# Altium footprint library dv_power.PcbLib: 8 footprints
Each footprint in its own frame and in the unit in brackets; x right, y up, seen from the top. Pads: shape width x height; smd on the part's side, far side on the other; paste and mask are expansions set on the pad; w line width, h text height; cw(c..) or ccw(c..) is an arc to the next point about the centre after c.
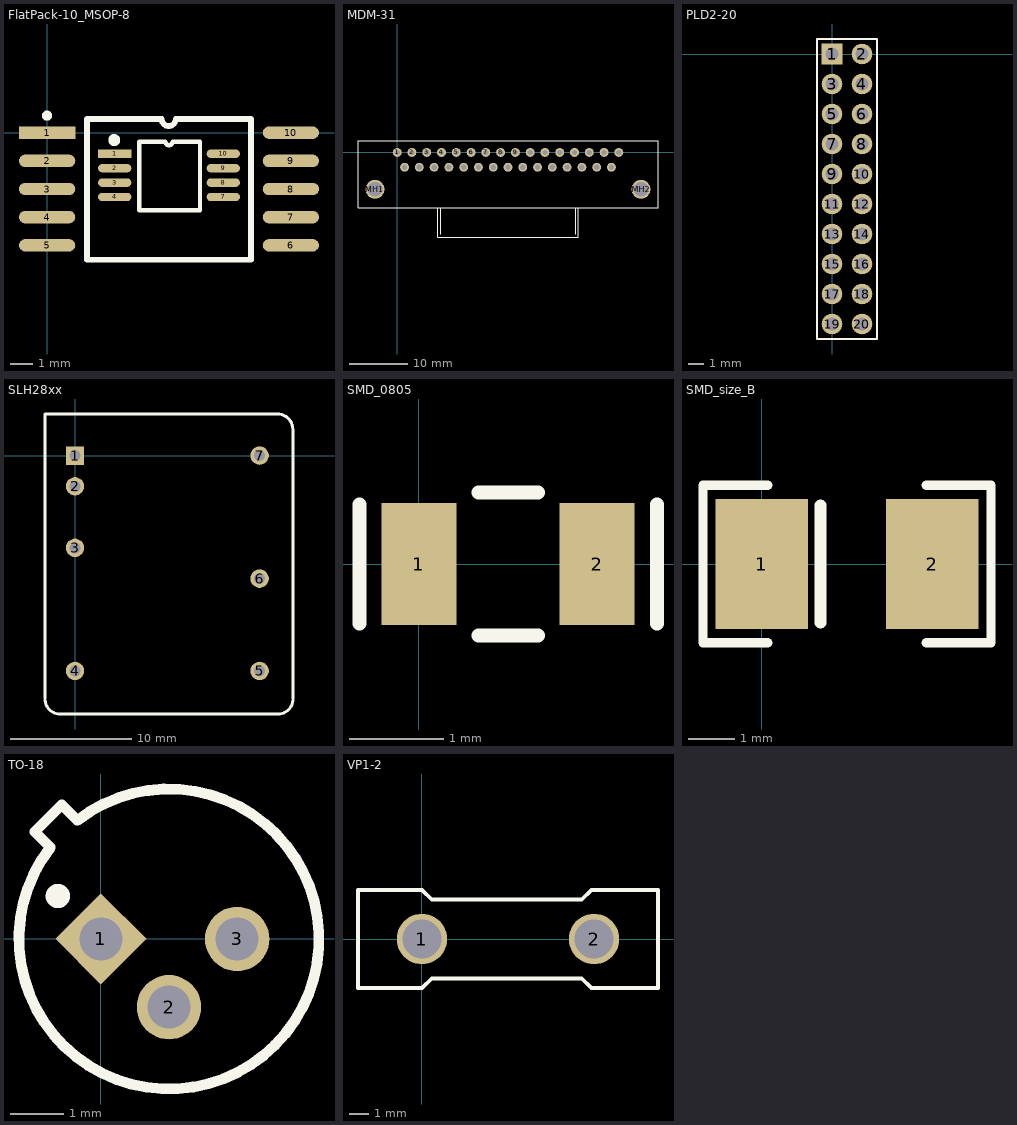
[diagram p0: the footprints below, top view; thin cyan lines are the x and y axes]

## FlatPack-10_MSOP-8 [mm]
pads (18):
  rect 2.54x0.559 smd: 1(0,0)
  rect 1.5x0.38 smd: 1(3.05,-0.95)
  oval 2.54x0.559 smd: 2(0,-1.27) 3(0,-2.54) 4(0,-3.81) 5(0,-5.08) 6(11,-5.08) 7(11,-3.81) 8(11,-2.54) 9(11,-1.27) 10(11,0)
  oval 1.5x0.38 smd: 2(3.05,-1.6) 3(3.05,-2.25) 4(3.05,-2.9) 7(7.95,-2.9) 8(7.95,-2.25) 9(7.95,-1.6) 10(7.95,-0.95)
Top Overlay:
  circle w0.254: c3.031,-0.331 r0.141
  circle w0.254: c-0.003,0.77 r0.1
  lines w0.2: 4.15,-3.5 4.15,-0.4 5.338,-0.4 ccw(c5.5,-0.4) 5.662,-0.4 6.9,-0.4 6.9,-3.5 4.15,-3.5
  lines w0.254: 1.8,-5.731 9.2,-5.731 9.2,0.619 5.804,0.619 cw(c5.486,0.619) 5.169,0.619 1.8,0.619 1.8,-5.731
Mechanical 15:
  text "'.Designator'" at 1.8,-4.865 h2
3D body "FlatPack-10.step": height 2, standoff -0.12, extent 0.148,-5.8 10.852,0.7

## MDM-31 [mil]
pads (33):
  round 60 hole 36: 1(0,0) 2(100,0) 3(200,0) 4(300,0) 5(400,0) 6(500,0) 7(600,0) 8(700,0) 9(800,0) 10(900,0) 11(1000,0) 12(1100,0) 13(1200,0) 14(1300,0) 15(1400,0) 16(1500,0) 17(50,-100) 18(150,-100) 19(250,-100) 20(350,-100) 21(450,-100) 22(550,-100) 23(650,-100) 24(750,-100) 25(850,-100) 26(950,-100) 27(1050,-100) 28(1150,-100) 29(1250,-100) 30(1350,-100) 31(1450,-100)
  round 128 hole 98.43: MH1(-150,-250) MH2(1650,-250)
Top Overlay:
  lines w6: 275,-375 275,-575 1225,-575 1225,-375 ; 295,-555 295,-375 ; 1210,-555 1210,-375 ; -265,-375 1765,-375 1765,80 -265,80 -265,-375
3D body "C115366_9014C_3.sldprt": height 340.36, standoff -195.08, extent -266.73,-562.52 1766.74,80

## PLD2-20 [mil]
pads (20):
  rect 54x54 hole 34: 1(0,0)
  round 54 hole 34: 2(78.74,0) 3(0,-78.74) 4(78.74,-78.74) 5(0,-157.48) 6(78.74,-157.48) 7(0,-236.22) 8(78.74,-236.22) 9(0,-314.96) 10(78.74,-314.96) 11(0,-393.7) 12(78.74,-393.7) 13(0,-472.44) 14(78.74,-472.44) 15(0,-551.18) 16(78.74,-551.18) 17(0,-629.92) 18(78.74,-629.92) 19(0,-708.66) 20(78.74,-708.66)
Top Overlay:
  lines w5.91: -39.37,-748.03 -39.37,39.37 118.11,39.37 118.11,-748.03 -39.37,-748.03
Mechanical 15:
  text "'.Designator'" at -5.26,31.5 h78.74
3D body "PLD2-20.STEP": height 232.28, standoff -110.24, extent -39.37,-744.09 118.11,35.44

## SLH28xx [mil]
pads (7):
  rect 60x60 hole 35.43: 1(0,0)
  round 60 hole 35.43: 2(0,-100) 3(0,-300) 4(0,-700) 5(600,-700) 6(600,-400) 7(600,0)
Top Overlay:
  lines w10: -97,-795 ccw(c-49.5,-792.5) -47,-840 658,-840 ccw(c660.5,-792.5) 708,-795 ; -97,-790 -97,135 658,135 cw(c658,85) 708,85 708,-790
Mechanical 15:
  text "'.Designator'" at 270.33,110.24 h78.74
3D body "SLH2805.STEP": height 274.8, standoff -118.11, extent -93.33,-839.15 706.67,136.04

## SMD_0805 [mm]
pads (2):
  rect 0.8x1.3 smd: 1(0,0) 2(1.9,0)
Top Overlay:
  lines w0.15: -0.635,-0.635 -0.635,0.635 ; 0.635,-0.762 1.27,-0.762 ; 0.635,0.762 1.27,0.762 ; 2.54,-0.635 2.54,0.635
Mechanical 15:
  text ".Designator" at -0.358,-0.279 h1
3D body "SMD_RLC_0805.STEP": height 0.43, standoff -0.02, extent -0.046,-0.625 1.954,0.625

## SMD_size_B [mm]
pads (2):
  rect 2x2.8 smd: 1(0,0) 2(3.683,0)
Top Overlay:
  lines w0.2: 0.127,-1.7 -1.27,-1.7 -1.27,1.7 0.127,1.7 ; 3.556,-1.7 4.953,-1.7 4.953,1.7 3.556,1.7
  lines w0.254: 1.27,-1.27 1.27,1.27
Mechanical 15:
  text ".Designator" at -1,-0.734 h2
3D body "SMD_CaseB_3528-21.step": height 1.9, standoff 0, extent 0.1,-1.4 3.6,1.4

## TO-18 [mm]
pads (3):
  rect 1.2x1.2 hole 0.8 rot 45: 1(0,0)
  round 1.2 hole 0.8: 2(1.27,-1.27) 3(2.54,0)
Top Overlay:
  circle w0.254: c-0.8,0.8 r0.1
  lines w0.2: -0.941,1.708 ccw(c1.27,0) -0.438,2.211 ; -0.94,1.71 -1.23,2 -0.73,2.5 -0.44,2.21
Mechanical 15:
  text "'.Designator'" at -1.862,-0.62 h1.5
3D body "TO-18.STEP": height 5.43, standoff -1.9, extent -2.012,-2.93 4.23,3.312

## VP1-2 [mm]
pads (2):
  round 2.6 hole 2: 1(0,0) 2(8.89,0)
Top Overlay:
  lines w0.2: 0.508,-2.032 8.255,-2.032 ; 0.508,2.032 8.255,2.032 ; 12.192,-2.54 12.192,2.54
  lines w0.203: 0.508,-2.032 0,-2.54 -3.302,-2.54 -3.302,2.54 0,2.54 0.508,2.032 ; 8.255,-2.032 8.763,-2.54 12.192,-2.54 ; 8.255,2.032 8.763,2.54 12.192,2.54
Mechanical 15:
  text "'.Designator'" at -3.002,-1.24 h3
3D body: height 0.76, standoff -2.03, extent -0.762,-0.759 0.759,0.759
3D body: height 4.18, standoff 0.38, extent 0.635,-1.905 8.255,1.897
3D body: height 4.68, standoff -0.13, extent -3.175,-2.408 0.635,2.408
3D body: height 4.68, standoff -0.13, extent 8.255,-2.408 12.065,2.408
3D body: height 0.76, standoff -2.03, extent 8.13,-0.762 9.65,0.756